# Altium integrated library Ferrite_bead.IntLib: 1 symbol
Pins are listed as number, name and electrical type; pins without a type are passive.

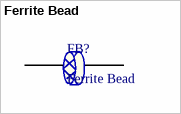
[diagram p0: symbol Ferrite Bead]

## Ferrite Bead
designator FB?
footprint 1608[0603] (Footprint not found)
pins: 0, 1